# Altium footprint library LPEDT_Component.PcbLib: 48 footprints (part 3 of 3)
Each footprint in its own frame and in the unit in brackets; x right, y up, seen from the top. Pads: shape width x height; smd on the part's side, far side on the other; paste and mask are expansions set on the pad; w line width, h text height; cw(c..) or ccw(c..) is an arc to the next point about the centre after c.
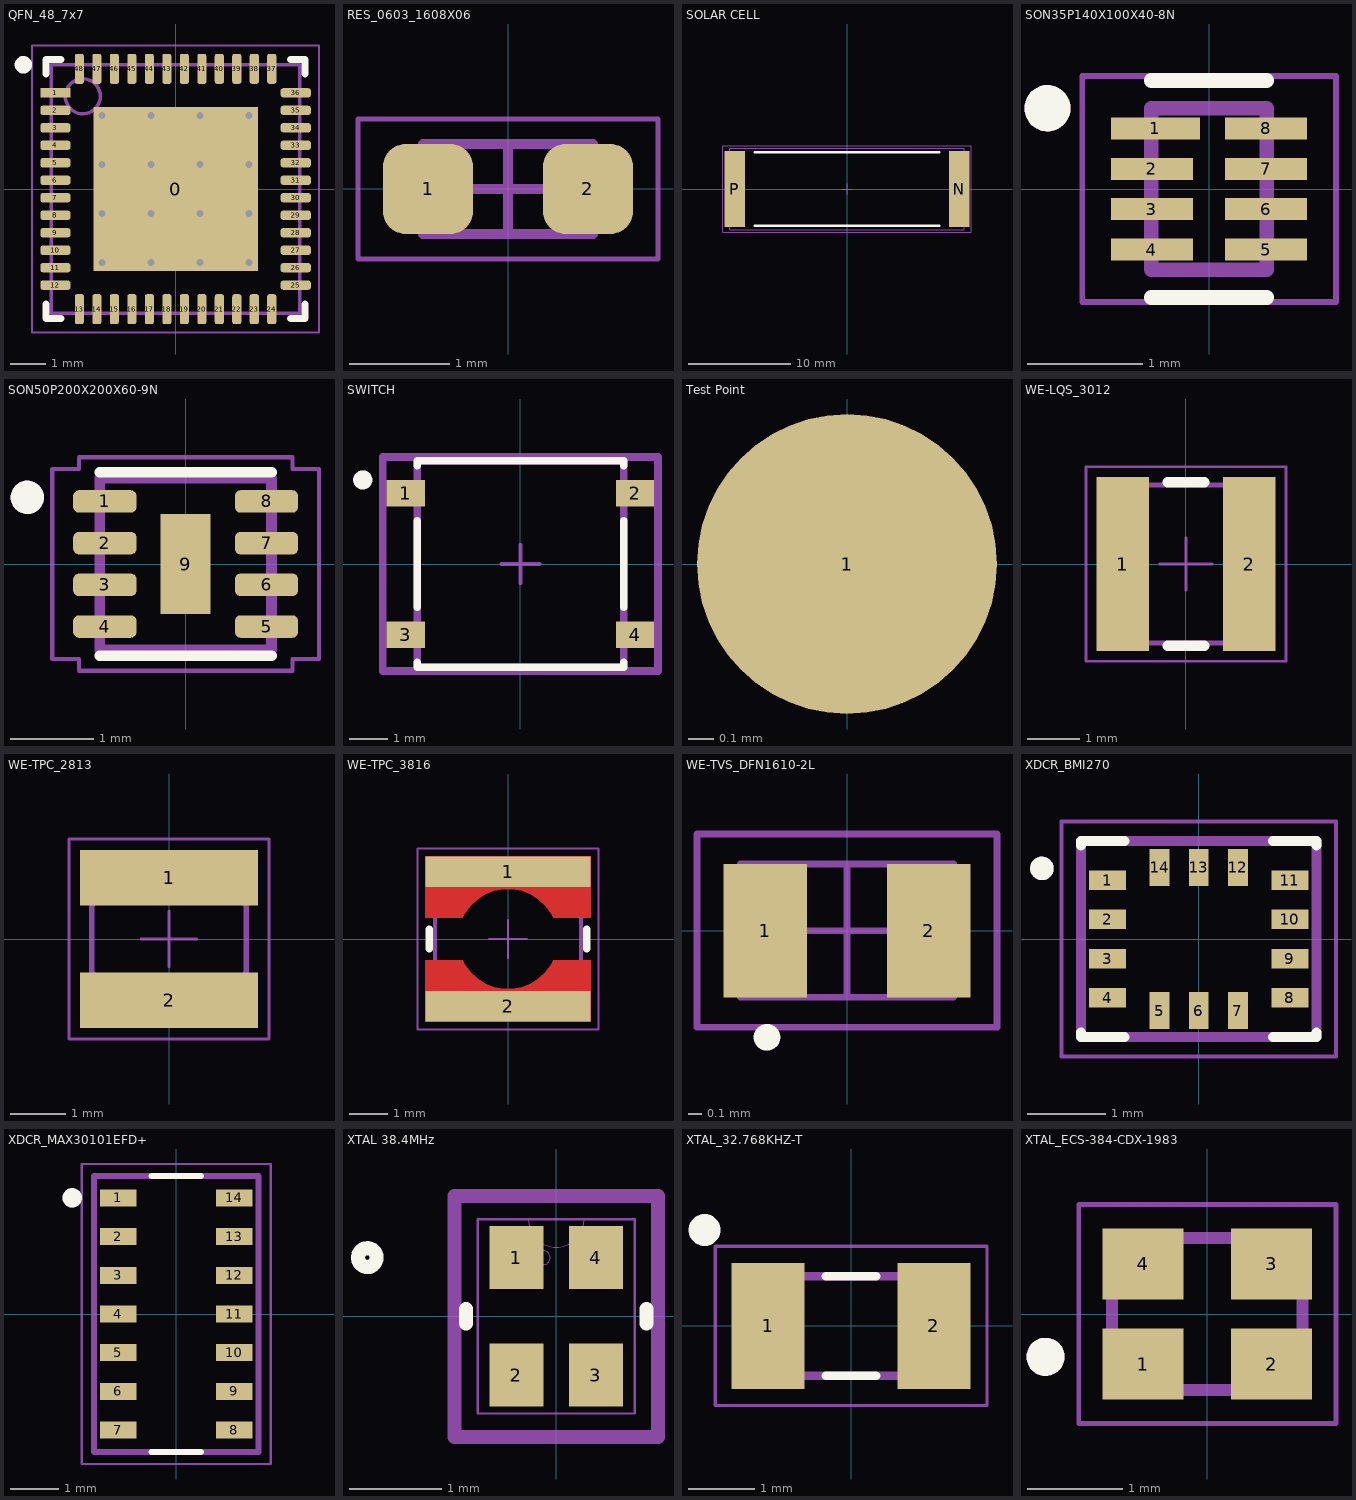
[diagram p2: the footprints below, top view; thin cyan lines are the x and y axes]

## QFN_48_7x7 [mm] "BLUE GECKO QFN48 2.4GHz 512KB 6"
height 0.9
pads (49):
  rect 4.7x4.7 smd paste-100 mask+0.05: 0(0,0)
  rect 0.86x0.26 smd mask+0.05: 1(-3.435,2.75)
  rrect50% 0.86x0.26 smd mask+0.05: 2(-3.435,2.25) 3(-3.435,1.75) 4(-3.435,1.25) 5(-3.435,0.75) 6(-3.435,0.25) 7(-3.435,-0.25) 8(-3.435,-0.75) 9(-3.435,-1.25) 10(-3.435,-1.75) 11(-3.435,-2.25) 12(-3.435,-2.75) 25(3.435,-2.75) 26(3.435,-2.25) 27(3.435,-1.75) 28(3.435,-1.25) 29(3.435,-0.75) 30(3.435,-0.25) 31(3.435,0.25) 32(3.435,0.75) 33(3.435,1.25) 34(3.435,1.75) 35(3.435,2.25) 36(3.435,2.75)
  rrect50% 0.26x0.86 smd mask+0.05: 13(-2.75,-3.435) 14(-2.25,-3.435) 15(-1.75,-3.435) 16(-1.25,-3.435) 17(-0.75,-3.435) 18(-0.25,-3.435) 19(0.25,-3.435) 20(0.75,-3.435) 21(1.25,-3.435) 22(1.75,-3.435) 23(2.25,-3.435) 24(2.75,-3.435) 37(2.75,3.435) 38(2.25,3.435) 39(1.75,3.435) 40(1.25,3.435) 41(0.75,3.435) 42(0.25,3.435) 43(-0.25,3.435) 44(-0.75,3.435) 45(-1.25,3.435) 46(-1.75,3.435) 47(-2.25,3.435) 48(-2.75,3.435)
via -0.7,2.1 diameter 0.5 hole 0.2
via 0.7,2.1 diameter 0.5 hole 0.2
via 2.1,2.1 diameter 0.5 hole 0.2
via -2.1,0.7 diameter 0.5 hole 0.2
via -0.7,0.7 diameter 0.5 hole 0.2
via 0.7,0.7 diameter 0.5 hole 0.2
via 2.1,0.7 diameter 0.5 hole 0.2
via -2.1,-0.7 diameter 0.5 hole 0.2
via -0.7,-0.7 diameter 0.5 hole 0.2
via 0.7,-0.7 diameter 0.5 hole 0.2
via 2.1,-0.7 diameter 0.5 hole 0.2
via -2.1,-2.1 diameter 0.5 hole 0.2
via -0.7,-2.1 diameter 0.5 hole 0.2
via 0.7,-2.1 diameter 0.5 hole 0.2
via 2.1,-2.1 diameter 0.5 hole 0.2
via -2.1,2.1 diameter 0.5 hole 0.2
Top Overlay:
  circle w0.25: c-4.35,3.55 r0.125
  lines w0.2: -3.7,-3.28 -3.7,-3.7 -3.28,-3.7 ; -3.7,3.28 -3.7,3.7 -3.28,3.7 ; 3.28,-3.7 3.7,-3.7 3.7,-3.28 ; 3.28,3.7 3.7,3.7 3.7,3.28
Top Paste:
  rectangle: 0.895,0.889 1.911,1.93
  rectangle: -0.505,0.889 0.511,1.93
  rectangle: -1.905,0.889 -0.889,1.93
  rectangle: 0.895,-0.511 1.911,0.53
  rectangle: -0.505,-0.511 0.511,0.53
  rectangle: -1.905,-0.511 -0.889,0.53
  rectangle: 0.895,-1.911 1.911,-0.87
  rectangle: -0.505,-1.911 0.511,-0.87
  rectangle: -1.905,-1.911 -0.889,-0.87
Mechanical 13:
  circle w0.1: c-2.65,2.65 r0.5
  lines w0.1: -3.55,-3.55 3.55,-3.55 3.55,3.55 -3.55,3.55 -3.55,-3.55
  text ".Designator" at -3.55,-3.264 h1.52
Mechanical 15:
  lines w0.05: -4.1,-4.1 4.1,-4.1 4.1,4.1 -4.1,4.1 -4.1,-4.1
  lines w0.1: -0.5,0 0.5,0 ; 0,-0.5 0,0.5
3D body "QFN_48_7x7.step": height 0.9, standoff 0, extent -3.551,-3.551 3.551,3.551

## RES_0603_1608X06 [mm] "Common Footprint for all 0603 resistors"
pads (2):
  rrect50% 0.9x0.9 smd: 1(-0.8,0) 2(0.8,0)
Mechanical 13:
  lines w0.1: -0.85,-0.45 -0.85,0.45 0.85,0.45 0.85,-0.45 -0.85,-0.45
  text ".Designator" at -0.635,-0.254 h0.4
Mechanical 15:
  lines w0.05: -1.5,-0.7 -1.5,0.7 1.5,0.7 1.5,-0.7 -1.5,-0.7
  lines w0.1: -0.45,0 0.45,0 ; 0,-0.45 0,0.45
3D body "0603_1608X05N.step": height 0.45, standoff 0, extent -0.775,-0.425 0.775,0.425

## SOLAR CELL [mm]
height 1.4
pads (2):
  rect 2x7.4 smd: N(11,0) P(-11,0)
Top Overlay:
  lines w0.2: -9.05,-3.6 9.05,-3.6 ; -9.05,3.6 9.05,3.6
Top Courtyard:
  lines w0.05: -12.2,-4.25 12.2,-4.25 12.2,4.25 -12.2,4.25 -12.2,-4.25
  lines w0.1: -0.5,0 0.5,0 ; 0,-0.5 0,0.5
Top Assembly:
  lines w0.1: -11.5,-4 11.5,-4 11.5,4 -11.5,4 -11.5,-4
3D body "SOLAR CELL1.step": height 0, standoff 0, extent 0,0 0,0

## SON35P140X100X40-8N [mm]
pads (8):
  rect 0.77x0.19 smd: 1(-0.465,0.525)
  rect 0.71x0.19 smd: 2(-0.495,0.175) 3(-0.495,-0.175) 4(-0.495,-0.525) 5(0.495,-0.525) 6(0.495,-0.175) 7(0.495,0.175) 8(0.495,0.525)
Top Overlay:
  circle w0.2: c-1.4,0.7 r0.1
  lines w0.127: -0.5,-0.94 0.5,-0.94 ; -0.5,0.94 0.5,0.94
Mechanical 13:
  circle w0.2: c-1.4,0.7 r0.1
  lines w0.127: -0.5,-0.7 0.5,-0.7 0.5,0.7 -0.5,0.7 -0.5,-0.7
Mechanical 15:
  lines w0.05: -1.1,-0.98 1.1,-0.98 1.1,0.98 -1.1,0.98 -1.1,-0.98
3D body "step_temp.STEP": height 0.4, standoff 0, extent -0.5,-0.7 0.5,0.7

## SON50P200X200X60-9N [mm]
pads (9):
  rrect50% 0.76x0.27 smd: 1(-0.97,0.75) 2(-0.97,0.25) 3(-0.97,-0.25) 4(-0.97,-0.75) 5(0.97,-0.75) 6(0.97,-0.25) 7(0.97,0.25) 8(0.97,0.75)
  rect 0.6x1.2 smd paste-0.115: 9(0,0)
Top Overlay:
  circle w0.2: c-1.9,0.8 r0.1
  lines w0.127: -1.03,-1.099 1.03,-1.099 ; -1.03,1.099 1.03,1.099
Mechanical 13:
  circle w0.2: c-1.9,0.8 r0.1
  lines w0.127: -1.03,-1.03 1.03,-1.03 1.03,1.03 -1.03,1.03 -1.03,-1.03
Mechanical 15:
  lines w0.05: -1.6,-1.14 -1.6,1.14 ; -1.6,-1.14 -1.6,1.14 ; -1.6,-1.14 -1.28,-1.14 -1.28,-1.28 1.28,-1.28 1.28,-1.14 1.6,-1.14 1.6,1.14 1.28,1.14 1.28,1.28 -1.28,1.28 -1.28,1.14 -1.6,1.14
3D body "step_temp.STEP": height 0.6, standoff 0, extent -1,-1 1,1

## SWITCH [mm]
pads (4):
  rect 1x0.7 smd paste+0 mask+0: 1(-3,1.85) 2(3,1.85) 3(-3,-1.85) 4(3,-1.85)
Top Overlay:
  circle w0.25: c-4.125,2.2 r0.125
  lines w0.2: -2.7,-2.575 -2.7,-2.7 2.7,-2.7 2.7,-2.575 ; -2.7,-1.125 -2.7,1.125 ; -2.7,2.575 -2.7,2.7 2.7,2.7 2.7,2.575 ; 2.7,-1.125 2.7,1.125
Top 3D Body:
  lines w0.2: -2.7,-2.7 2.7,-2.7 2.7,2.7 -2.7,2.7 -2.7,-2.7
Top Courtyard:
  lines w0.2: -3.6,-2.8 3.6,-2.8 3.6,2.8 -3.6,2.8 -3.6,-2.8
Top Assembly:
  lines w0.2: -3.6,-2.8 3.6,-2.8 3.6,2.8 -3.6,2.8 -3.6,-2.8
  text ".Designator" at 0,0.188 h1
Top Component Center:
  lines w0.1: -0.5,0 0.5,0 ; 0,-0.5 0,0.5
3D body "Switch_C&K_PTS526SK15SMTR2LFS_eec.STEP": height 0.25, standoff 0, extent -3.6,-2.8 3.6,2.8

## Test Point [mm]
pads (1):
  round 1.2 smd paste-2539.97: 1(0,0)

## WE-LQS_3012 [mm] "SMD Power Inductor, 2-Leads, body 3x3mm"
height 1.2
pads (2):
  rect 1x3.3 smd: 1(-1.2,0) 2(1.2,0)
Top Overlay:
  lines w0.2: -0.35,-1.55 0.35,-1.55 ; -0.35,1.55 0.35,1.55
Top 3D Body:
  lines w0.1: -1.5,-1.5 1.5,-1.5 1.5,1.5 -1.5,1.5 -1.5,-1.5
Top Courtyard:
  lines w0.05: -0.5,0 0.5,0 ; 0,-0.5 0,0.5 ; -1.9,-1.85 -1.9,1.85 1.9,1.85 1.9,-1.85 -1.9,-1.85
Top Designator:
  text ".Designator" at -3.499,-0.233 h0.7
Top Component Outline:
  lines w0.1: -1.5,-1.5 1.5,-1.5 1.5,1.5 -1.5,1.5 -1.5,-1.5
3D body "IndLQS_3012_TPI_74404031xxxA.stp": height 1.2, standoff 0, extent -1.5,-1.5 1.5,1.5

## WE-TPC_2813 [mm] "Power Inductor, SMD, 2-Leads, body 2.78x2.78mm"
height 1.35
pads (2):
  rect 3.2x1 smd: 1(0,1.1) 2(0,-1.1)
Top 3D Body:
  lines w0.1: -1.39,-0.6 -1.39,0.6 -0.6,1.39 0.6,1.39 1.39,0.6 1.39,-0.6 0.6,-1.39 -0.6,-1.39 -1.39,-0.6
Top Courtyard:
  lines w0.05: -1.8,-1.8 -1.8,1.8 1.8,1.8 1.8,-1.8 -1.8,-1.8
Top Designator:
  text ".Designator" at -3.499,-0.233 h0.7
Top Component Outline:
  lines w0.1: -1.39,-0.6 -1.39,0.6 -0.6,1.39 0.6,1.39 1.39,0.6 1.39,-0.6 0.6,-1.39 -0.6,-1.39 -1.39,-0.6
Top Component Center:
  lines w0.05: -0.5,0 0.5,0 ; 0,-0.5 0,0.5
3D body "STEP-WE-TPC-2813-rev1.stp": height 1.2, standoff 0, extent -1.39,-1.39 1.39,1.39

## WE-TPC_3816 [mm] "Power Inductor, SMD, 2-Leads, body 3.8x3.8mm"
height 1.65
pads (2):
  rect 4.3x0.8 smd paste-403.566 mask-403.566: 1(0,1.75) 2(0,-1.75)
Top Layer:
  region: -2.15,0.55 -2.15,2.15 2.15,2.15 2.15,0.55 1.178,0.55 1.121,0.658 0.977,0.857 0.799,1.026 0.592,1.157 0.364,1.248 0.123,1.294 -0.122,1.294 -0.363,1.248 -0.592,1.158 -0.798,1.026 -0.977,0.858 -1.121,0.659 -1.178,0.55
  region: 2.15,-0.55 2.15,-2.15 -2.15,-2.15 -2.15,-0.55 -1.178,-0.55 -1.121,-0.658 -0.977,-0.857 -0.799,-1.026 -0.592,-1.157 -0.364,-1.248 -0.123,-1.294 0.122,-1.294 0.363,-1.248 0.592,-1.158 0.798,-1.026 0.977,-0.858 1.121,-0.659 1.178,-0.55
Top Overlay:
  lines w0.2: -2.05,-0.25 -2.05,0.25 ; 2.05,-0.25 2.05,0.25
Top 3D Body:
  lines w0.1: -1.9,-1.9 -1.9,1.9 1.9,1.9 1.9,-1.9 -1.9,-1.9
Top Courtyard:
  lines w0.05: -2.35,-2.35 -2.35,2.35 2.35,2.35 2.35,-2.35 -2.35,-2.35
Top Designator:
  text ".Designator" at -4.998,-0.333 h1
Top Component Outline:
  lines w0.1: -1.9,-1.9 -1.9,1.9 1.9,1.9 1.9,-1.9 -1.9,-1.9
Top Component Center:
  lines w0.05: -0.5,0 0.5,0 ; 0,-0.5 0,0.5
3D body "744031xxx.stp": height 1.65, standoff 0, extent -1.9,-1.9 1.9,1.9

## WE-TVS_DFN1610-2L [mm] "TVS Diode, package DFN1610-2L"
height 0.55
pads (2):
  rect 0.625x1 smd: 1(-0.613,0) 2(0.613,0)
Top Overlay:
  circle w0.1: c-0.6,-0.8 r0.05
Top 3D Body:
  circle w0.05: c-0.6,-0.3 r0.1
  lines w0.05: 0.8,-0.5 -0.8,-0.5 -0.8,0.5 0.8,0.5 0.8,-0.5
Top Courtyard:
  lines w0.05: -0.5,0 0.5,0 ; 0,-0.5 0,0.5 ; -1.125,-0.725 -1.125,0.725 1.125,0.725 1.125,-0.725 -1.125,-0.725
Top Designator:
  text ".Designator" at -2.499,-0.167 h0.5
Top Component Outline:
  circle w0.05: c-0.6,-0.3 r0.1
  lines w0.05: 0.8,-0.5 -0.8,-0.5 -0.8,0.5 0.8,0.5 0.8,-0.5
3D body "STEP-WE-TVS-DFN1610-2L-rev1.stp": height 0.51, standoff 0, extent -0.8,-0.5 0.8,0.5

## XDCR_BMI270 [mm]
height 0.87
pads (14):
  rect 0.475x0.25 smd: 1(-1.162,0.75) 2(-1.162,0.25) 3(-1.162,-0.25) 4(-1.162,-0.75) 8(1.162,-0.75) 9(1.162,-0.25) 10(1.162,0.25) 11(1.162,0.75)
  rect 0.25x0.475 smd: 5(-0.5,-0.913) 6(0,-0.913) 7(0.5,-0.913) 12(0.5,0.913) 13(0,0.913) 14(-0.5,0.913)
Top Overlay:
  circle w0.15: c-2,0.9 r0.075
  lines w0.127: -1.5,-1.195 -1.5,-1.25 -0.945,-1.25 ; -1.5,1.195 -1.5,1.25 -0.945,1.25 ; 0.945,-1.25 1.5,-1.25 1.5,-1.195 ; 0.945,1.25 1.5,1.25 1.5,1.195
Mechanical 13:
  circle w0.15: c-2,0.9 r0.075
  lines w0.127: -1.5,-1.25 -1.5,1.25 1.5,1.25 1.5,-1.25 -1.5,-1.25
Mechanical 15:
  lines w0.05: -1.75,-1.5 1.75,-1.5 1.75,1.5 -1.75,1.5 -1.75,-1.5
3D body "step_temp.STEP": height 0.87, standoff 0, extent -1.5,-1.25 1.5,1.25

## XDCR_MAX30101EFD+ [mm]
pads (14):
  rect 0.75x0.35 smd: 1(-1.2,2.4) 2(-1.2,1.6) 3(-1.2,0.8) 4(-1.2,0) 5(-1.2,-0.8) 6(-1.2,-1.6) 7(-1.2,-2.4) 8(1.2,-2.4) 9(1.2,-1.6) 10(1.2,-0.8) 11(1.2,0) 12(1.2,0.8) 13(1.2,1.6) 14(1.2,2.4)
Top Overlay:
  circle w0.2: c-2.15,2.4 r0.1
  lines w0.127: -0.505,-2.85 0.505,-2.85 ; -0.505,2.85 0.505,2.85
Mechanical 13:
  circle w0.2: c-2.15,2.4 r0.1
  lines w0.127: -1.7,-2.85 -1.7,2.85 1.7,2.85 1.7,-2.85 -1.7,-2.85
Mechanical 15:
  lines w0.05: -1.95,-3.1 -1.95,3.1 1.95,3.1 1.95,-3.1 -1.95,-3.1

## XTAL 38.4MHz [mil]
pads (4):
  rect 23x27 smd paste+0 mask+0: 1(-17,25.1) 2(-17,-25.1) 3(17,-25.1) 4(17,25.1)
Top Overlay:
  circle w6: c-80.7,25.1 r4
  lines w6: -38.5,-3.14 -38.5,3.14 ; 38.5,-3.14 38.5,3.14
Mechanical 13:
  circle w0: c-5.5,25.1 r3
  lines w0: -12,41.5 ccw(c0,41.5) 12,41.5
  lines w1: -33.5,-41.5 33.5,-41.5 33.5,41.5 -33.5,41.5 -33.5,-41.5
Mechanical 15:
  lines w6: -43.5,-51.5 -43.5,-48.6 -43.5,48.6 -43.5,51.5 43.5,51.5 43.5,48.6 43.5,-48.6 43.5,-51.5 -43.5,-51.5
3D body "8Y384_TXC.step": height 20.12, standoff 0, extent -33.5,-41.5 33.5,41.5

## XTAL_32.768KHZ-T [mm]
height 0.9
pads (2):
  rect 1.1x1.9 smd: 1(-1.25,0) 2(1.25,0)
Top Overlay:
  circle w0.254: c-2.21,1.448 r0.114
  lines w0.127: -0.38,-0.75 0.38,-0.75 ; -0.38,0.75 0.38,0.75
Mechanical 13:
  lines w0.127: -1.6,-0.75 -1.6,0.75 1.6,0.75 1.6,-0.75 -1.6,-0.75
Mechanical 15:
  lines w0.05: -2.05,-1.2 -2.05,1.2 2.05,1.2 2.05,-1.2 -2.05,-1.2
3D body "step_temp.STEP": height 0.89, standoff 0, extent -1.6,-0.749 1.6,0.749

## XTAL_ECS-384-CDX-1983 [mm]
pads (4):
  rect 0.85x0.75 smd: 1(-0.675,-0.525) 2(0.675,-0.525) 3(0.675,0.525) 4(-0.675,0.525)
Top Overlay:
  circle w0.2: c-1.7,-0.45 r0.1
Mechanical 13:
  circle w0.2: c-1.7,-0.45 r0.1
  lines w0.127: -1,-0.8 1,-0.8 1,0.8 -1,0.8 -1,-0.8
Mechanical 15:
  lines w0.05: -1.35,-1.15 1.35,-1.15 1.35,1.15 -1.35,1.15 -1.35,-1.15